# EAGLE library part EXB-2HV (library Custom_old)
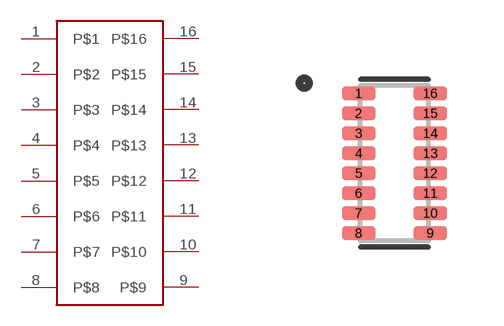
[diagram p29: symbol with the pads of 1506; footprint 1506]

Designator prefix -

## EXB-2HV  [1506]
1  P$1
2  P$2
3  P$3
4  P$4
5  P$5
6  P$6
7  P$7
8  P$8
9  P$9
10  P$10
11  P$11
12  P$12
13  P$13
14  P$14
15  P$15
16  P$16

## Footprint 1506 (pad centres in mm)
smd 0.84 x 0.34: 1 -0.895,1.75; 2 -0.895,1.25; 3 -0.895,0.75; 4 -0.895,0.25; 5 -0.895,-0.25; 6 -0.895,-0.75; 7 -0.895,-1.25; 8 -0.895,-1.75; 9 0.895,-1.75; 10 0.895,-1.25; 11 0.895,-0.75; 12 0.895,-0.25; 13 0.895,0.25; 14 0.895,0.75; 15 0.895,1.25; 16 0.895,1.75